# Altium schematic symbol library electronic_stopwatch.SchLib: 1 symbol
Pins are listed as number, name and electrical type; pins without a type are passive.

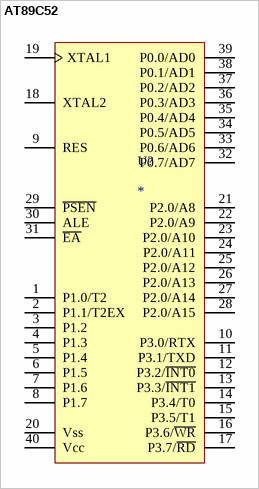
[diagram p0: symbol AT89C52]

## AT89C52
designator U?
footprint DIP40
pins: 1 P1.0/T2, 2 P1.1/T2EX, 3 P1.2, 4 P1.3, 5 P1.4, 6 P1.5, 7 P1.6, 8 P1.7, 9 RES, 10 P3.0/RTX, 11 P3.1/TXD, 12 P3.2/~{INT0}, 13 P3.3/~{INT1}, 14 P3.4/T0, 15 P3.5/T1, 16 P3.6/~{WR}, 17 P3.7/~{RD}, 18 XTAL2, 19 XTAL1, 20 Vss, 21 P2.0/A8, 22 P2.0/A9, 23 P2.0/A10, 24 P2.0/A11, 25 P2.0/A12, 26 P2.0/A13, 27 P2.0/A14, 28 P2.0/A15, 29 ~{PSEN}, 30 ALE, 31 ~{EA}, 32 P0.7/AD7, 33 P0.6/AD6, 34 P0.5/AD5, 35 P0.4/AD4, 36 P0.3/AD3, 37 P0.2/AD2, 38 P0.1/AD1, 39 P0.0/AD0, 40 Vcc